# Altium schematic symbol library antenna.SchLib: 1 symbol
Pins are listed as number, name and electrical type; pins without a type are passive.

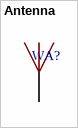
[diagram p0: symbol Antenna]

## Antenna
designator WA?  (value not drawn)
footprint ANTENNA
pins: 1